# Altium schematic symbol library PMIC-VoltageRegulators-LinearRegulators.SchLib: 6 symbols
Pins are listed as number, name and electrical type; pins without a type are passive.

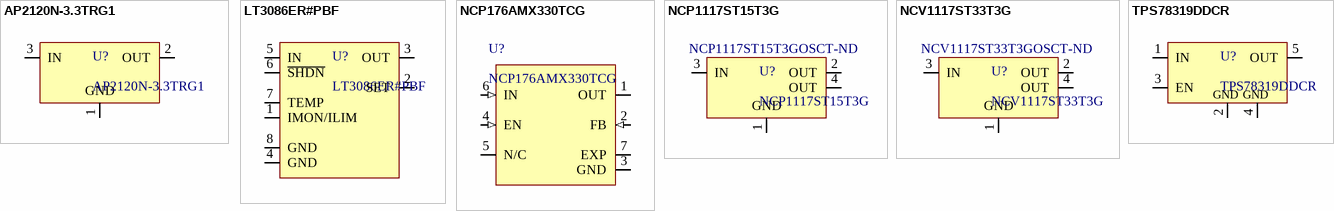
[diagram p0: symbols AP2120N-3.3TRG1 to TPS78319DDCR]

## AP2120N-3.3TRG1
designator U?
IC REG LINEAR 3.3V 150mA SOT23; Supplier 1: Digi-Key; Supplier Part Number 1: AP2120N-3.3TRG1; Package / Case: SOT23; Mounted: Yes
footprint SOT-23-3 (SOT23-3, from TI DBZ (R-PDSO-G3))
pins: 1 GND, 2 OUT, 3 IN

## LT3086ER#PBF
designator U?
IC REG LDO ADJ 2.1A 40V DDPAK; Supplier 1: Digi-Key; Supplier Part Number 1: LT3086ER#PBF-ND; Package / Case: TO-263-8, D²Pak (7 Leads + Tab), TO-263CA; Mounted: Yes
footprint TO-263-8/D2PAK8 (TO-263-8, D²Pak (7 Leads + Tab), TO-263CA. modified from Infineon FLG09089)
pins: 1 IMON/ILIM, 2 SET, 3 OUT, 4 GND, 5 IN, 6 ~{SHDN}, 7 TEMP, 8 GND

## NCP176AMX330TCG
designator U?
IC REG LINEAR 3.3V 500mA 6-XDFN; Supplier 1: Digi-Key; Supplier Part Number 1: NCP176AMX330TCGOSCT-ND; Package / Case: 6-XDFN; Mounted: Yes
footprint XFDFN-6 Exposed Pad
pins: 1 OUT, 2 FB (in), 3 GND (power), 4 EN (in), 5 N/C, 6 IN (in), 7 EXP (power)

## NCP1117ST15T3G
designator U?  Supplier Part Number 1: NCP1117ST15T3GOSCT-ND
IC REG LINEAR 1.5V 1A SOT223; Package / Case: SOT223; Mounted: Yes; Supplier 1: Digikey
footprint SOT-223-3/TO-261-3S (TO-261-3 / SOT-223-3 from Infineon IPN80R600P7 Datasheet, rev 2,1)
pins: 1 GND, 2 OUT, 3 IN, 4 OUT

## NCV1117ST33T3G
designator U?  Supplier Part Number 1: NCV1117ST33T3GOSCT-ND
IC REG LINEAR 3.3V 1A SOT223; Package / Case: SOT223; Mounted: Yes; Supplier 1: Digikey
footprint SOT-223-3/TO-261-3S (TO-261-3 / SOT-223-3 from Infineon IPN80R600P7 Datasheet, rev 2,1)
pins: 1 GND, 2 OUT, 3 IN, 4 OUT

## TPS78319DDCR
designator U?
IC REG LINEAR 1.9V 150MA SOT23-5; Supplier 1: Digi-Key; Supplier Part Number 1: 296-40965-1-ND; Package / Case: SOT23-5; Mounted: Yes; Help URL: https://www.ti.com/lit/ds/symlink/tps783.pdf?HQS=dis-dk-null-digikeymode-dsf-pf-null-wwe&ts=1700078812445&ref_url=https%253A%252F%252Fwww.ti.com%252Fgeneral%252Fdocs%252Fsuppproductinfo.tsp%253FdistId%253D10%2526gotoUrl%253Dhttps%253A%252F%252Fwww.ti.com%252Flit%252Fgpn%252Ftps783
footprint SOT-23-5 (SOT23-5, from TI DDC (R-PDSO-G6), modified from 6 to 5 pins)
pins: 1 IN, 2 GND, 3 EN, 4 OUT, 5 OUT